# EAGLE library part 2012670005 (library USB)
USB-C (USB TYPE-C) USB 3.1 (USB 3.1 Gen 2, Superspeed+) Receptacle Connector 24 Position Surface Mount, Right Angle; Through Hole
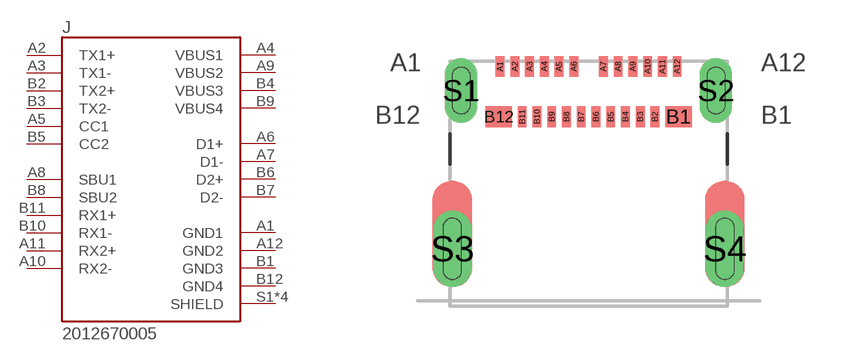
[diagram p0: symbol with the pads of MOLEX_2012670005; footprint MOLEX_2012670005]

Designator prefix J

## 2012670005 (AVAILABILITY: Unavailable; DESCRIPTION: USB-C (USB TYPE-C) USB 3.1 (USB 3.1 Gen 2, Superspeed+) Receptacle Connector 24 Position Surface Mount, Right Angle; Through Hole; MF: Molex; MP: 201267-0005; PACKAGE: None; PRICE: None)  [MOLEX_2012670005]
A1  GND1  pwr
A2  TX1+  pas
A3  TX1-  pas
A4  VBUS1  pwr
A5  CC1  pas
A6  D1+  pas
A7  D1-  pas
A8  SBU1  pas
A9  VBUS2  pwr
A10  RX2-  pas
A11  RX2+  pas
A12  GND2  pwr
B1  GND3  pwr
B2  TX2+  pas
B3  TX2-  pas
B4  VBUS3  pwr
B5  CC2  pas
B6  D2+  pas
B7  D2-  pas
B8  SBU2  pas
B9  VBUS4  pwr
B10  RX1-  pas
B11  RX1+  pas
B12  GND4  pwr
S1  SHIELD  pwr
S2  SHIELD  pwr
S3  SHIELD  pwr
S4  SHIELD  pwr

## Footprint MOLEX_2012670005 (pad centres in mm)
smd 0.3 x 0.7: A1 -3,0.81; A2 -2.5,0.81; A3 -2,0.81; A4 -1.5,0.81; A5 -1,0.81; A6 -0.5,0.81; A7 0.5,0.81; A8 1,0.81; A9 1.5,0.81; A10 2,0.81; A11 2.5,0.81; A12 3,0.81; B2 2.25,-0.89; B3 1.75,-0.89; B4 1.25,-0.89; B5 0.75,-0.89; B6 0.25,-0.89; B7 -0.25,-0.89; B8 -0.75,-0.89; B9 -1.25,-0.89; B10 -1.75,-0.89; B11 -2.25,-0.89
smd 0.9 x 0.7: B1 3.05,-0.89; B12 -3.05,-0.89
drill 0.6 pad 1.1 long: S1 -4.32,0; S2 4.32,0
drill 0.6 pad 1.3 long: S3 -4.62,-5.36; S4 4.62,-5.36